# Altium footprint library Connector.PcbLib: 52 footprints (part 4 of 4)
Each footprint in its own frame and in the unit in brackets; x right, y up, seen from the top. Pads: shape width x height; smd on the part's side, far side on the other; paste and mask are expansions set on the pad; w line width, h text height; cw(c..) or ccw(c..) is an arc to the next point about the centre after c.
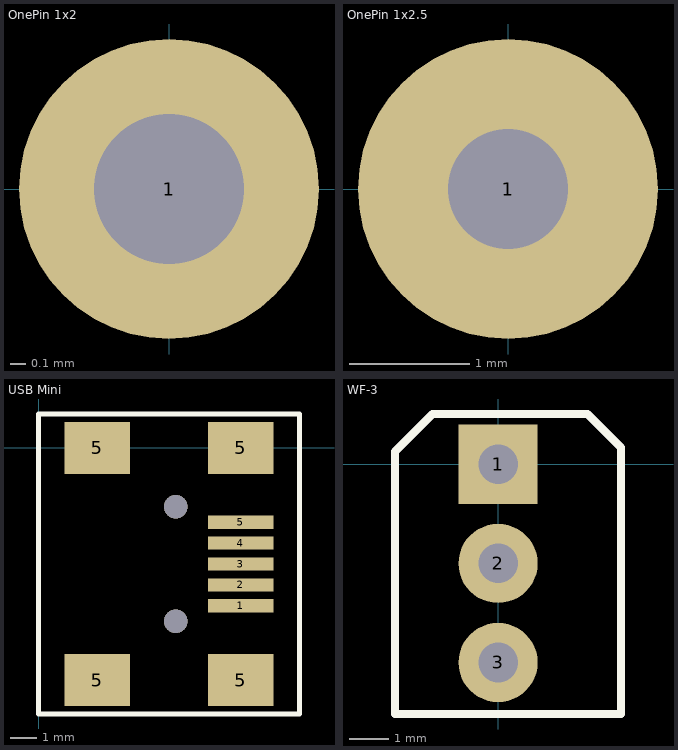
[diagram p3: the footprints below, top view; thin cyan lines are the x and y axes]

## OnePin 1x2 [mm]
pads (1):
  round 2 hole 1: 1(0,0)

## OnePin 1x2.5 [mm]
pads (1):
  round 2.5 hole 1: 1(0,0)

## USB Mini [mm]
pads (9):
  rect 2.5x0.5 smd: 1(7.75,-6.05) 2(7.75,-5.25) 3(7.75,-4.45) 4(7.75,-3.65) 5(7.75,-2.85)
  rect 2.5x2 smd: 5(2.25,-8.9) 5(2.25,0) 5(7.75,-8.9) 5(7.75,0)
via 5.25,-6.65 diameter 0.9 hole 0.9
via 5.25,-2.25 diameter 0.9 hole 0.9
Top Overlay:
  lines w0.2: 0,-10.2 10,-10.2 10,1.3 0,1.3 0,-10.2
3D body: height 3.93, standoff -1, extent -0.6,-9.25 8.65,0.65

## WF-3 [mm]
pads (3):
  rect 2x2 hole 1: 1(0,0)
  round 2 hole 1: 2(0,-2.5) 3(0,-5)
Top Overlay:
  lines w0.2: -2.6,-6.3 3.1,-6.3 3.1,0.425 2.255,1.27 -1.655,1.27 -2.6,0.325 -2.6,-6.3
3D body: height 11.73, standoff -3, extent -2.7,-6.4 3.2,1.4